# Altium schematic symbol library USB_uart_conversor.SchLib: 1 symbol
Pins are listed as number, name and electrical type; pins without a type are passive.

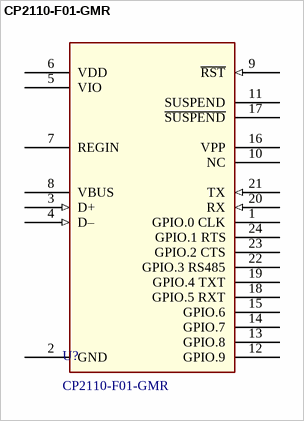
[diagram p0: symbol CP2110-F01-GMR]

## CP2110-F01-GMR
designator U?
IC HID USB-TO-UART BRIDGE 24QFN; Manufacturer: Silicon Labs; Interface Type: UART; Number of I/Os: 10 I/O; Operating Supply Voltage: 3 V to 3.6 V; Operating Supply Current: 11.3 mA; Unit Weight: 0.001764 oz; Supplier 1: Digi-Key; Manufacturer Part Number: CP2110-F01-GMR; Stock 1: 2215; Pricing 1: 1=1.54, 25=1.4808, 100=1.428 (USD); Product Category: I/O Controller Interface IC; RoHS: True; Product: HID USB to UART Bridges; Maximum Operating Temperature: + 85 C; Minimum Operating Temperature: - 40 C; Mounting Style: SMD/SMT; Package / Case: QFN-24; Packaging: Reel; Brand: Silicon Labs; Series: CP2110; Supplier Part Number 1: 336-4156-1-ND
pins: 1 GPIO.0 CLK, 2 GND (power), 3 D+ (in), 4 D– (in), 5 VIO (power), 6 VDD (power), 7 REGIN (power), 8 VBUS (power), 9 ~{RST} (in), 10 NC, 11 SUSPEND, 12 GPIO.9, 13 GPIO.8, 14 GPIO.7, 15 GPIO.6, 16 VPP, 17 ~{SUSPEND}, 18 GPIO.5 RXT, 19 GPIO.4 TXT, 20 RX (in), 21 TX (in), 22 GPIO.3 RS485, 23 GPIO.2 CTS, 24 GPIO.1 RTS